# Altium footprint library capacitor_smd.PcbLib: 120 footprints (part 4 of 8)
Each footprint in its own frame and in the unit in brackets; x right, y up, seen from the top. Pads: shape width x height; smd on the part's side, far side on the other; paste and mask are expansions set on the pad; w line width, h text height; cw(c..) or ccw(c..) is an arc to the next point about the centre after c.
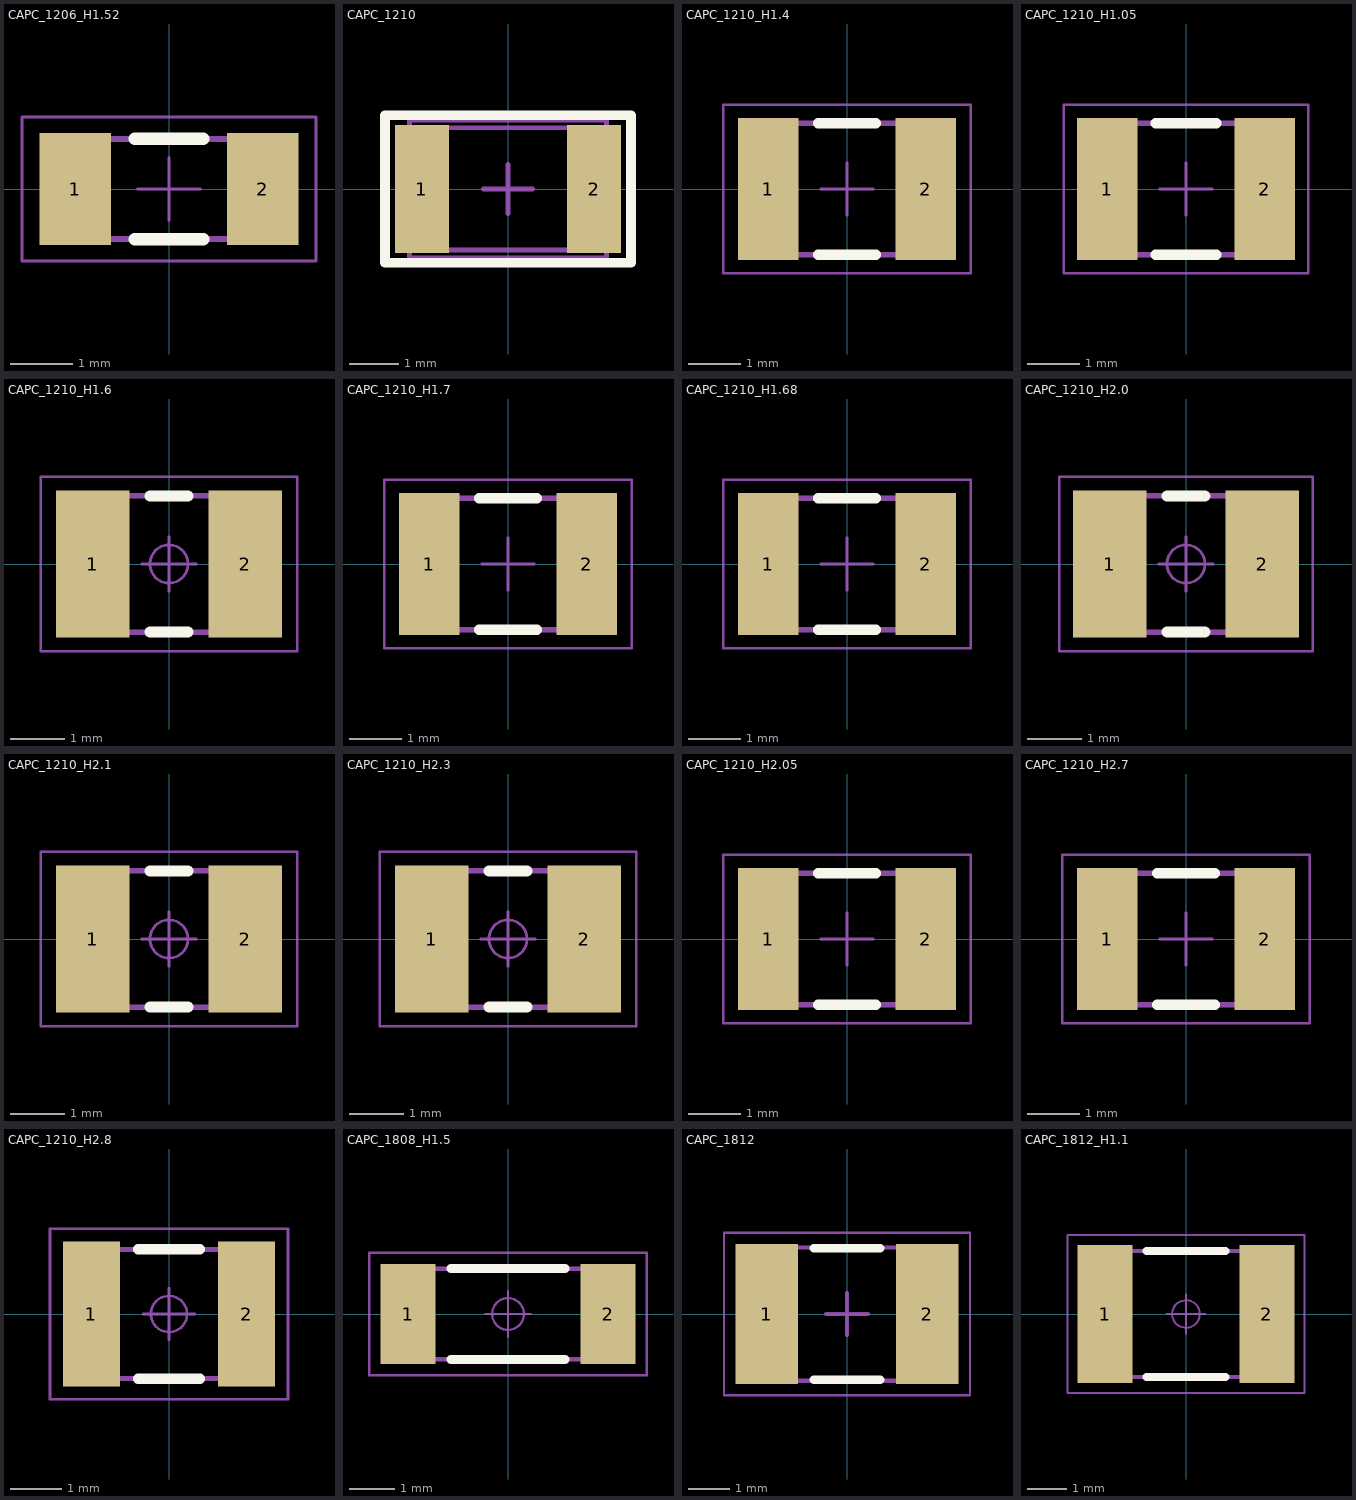
[diagram p3: the footprints below, top view; thin cyan lines are the x and y axes]

## CAPC_1206_H1.52 [mm] "Chip Capacitor, Body 3.2x1.6mm, IPC Medium Density"
height 1.52
pads (2):
  rect 1.15x1.8 smd: 1(-1.5,0) 2(1.5,0)
Top Overlay:
  lines w0.2: -0.55,-0.8 0.55,-0.8 ; -0.55,0.8 0.55,0.8
Mechanical 1:
  lines w0.1: -1.6,-0.8 -1.6,0.8 1.6,0.8 1.6,-0.8 -1.6,-0.8
Mechanical 15:
  lines w0.05: -0.5,0 0.5,0 ; 0,-0.5 0,0.5 ; -2.35,-1.15 -2.35,1.15 2.35,1.15 2.35,-1.15 -2.35,-1.15
3D body "CAPC3216X152N.stp": height 1.52, standoff 0, extent -1.7,-0.9 1.7,0.9

## CAPC_1210 [mm]
height 2.5
pads (2):
  rect 1.1x2.6 smd: 1(-1.75,0) 2(1.75,0)
Top Overlay:
  lines w0.2: -2.5,-1.5 2.5,-1.5 2.5,1.5 -2.5,1.5 -2.5,-1.5
Mechanical 1:
  lines w0.1: -2,-1.244 -2,1.245 2,1.245 2,-1.244 -2,-1.244
Mechanical 15:
  lines w0.1: -0.5,0 0.5,0 ; 0,-0.5 0,0.5 ; -2,-1.4 2,-1.4 2,1.4 -2,1.4 -2,-1.4
3D body "User Library-1210(3225M) Cap.STEP": height 1.7, standoff 0, extent -2,-1.244 2,1.245

## CAPC_1210_H1.4 [mm] "Chip Capacitor, Body 3.2x2.5mm, IPC Medium Density"
height 1.4
pads (2):
  rect 1.15x2.7 smd: 1(-1.5,0) 2(1.5,0)
Top Overlay:
  lines w0.2: -0.55,-1.25 0.55,-1.25 ; -0.55,1.25 0.55,1.25
Mechanical 1:
  lines w0.1: -1.6,-1.25 -1.6,1.25 1.6,1.25 1.6,-1.25 -1.6,-1.25
Mechanical 15:
  lines w0.05: -0.5,0 0.5,0 ; 0,-0.5 0,0.5 ; -2.35,-1.6 2.35,-1.6 2.35,1.6 -2.35,1.6 -2.35,-1.6
3D body "CAPC3225X140N.stp": height 1.4, standoff 0, extent -1.7,-1.35 1.7,1.35

## CAPC_1210_H1.05 [mm] "Chip Capacitor, Body 3.2x2.5mm, IPC Medium Density"
height 1.05
pads (2):
  rect 1.15x2.7 smd: 1(-1.5,0) 2(1.5,0)
Top Overlay:
  lines w0.2: -0.575,-1.25 0.575,-1.25 ; -0.575,1.25 0.575,1.25
Mechanical 1:
  lines w0.1: -1.1,-1.25 -1.1,1.25 ; 1.1,-1.25 1.1,1.25 ; -1.6,-1.25 -1.6,1.25 1.6,1.25 1.6,-1.25 -1.6,-1.25
Mechanical 15:
  lines w0.05: -0.5,0 0.5,0 ; 0,-0.5 0,0.5 ; -2.325,-1.6 2.322,-1.6 2.322,1.6 -2.325,1.6 -2.325,-1.6
3D body "CAPC3225X105N.stp": height 1.05, standoff 0, extent -1.6,-1.25 1.6,1.25

## CAPC_1210_H1.6 [mm] "Chip Capacitor, Body 3.2x2.5mm, IPC Medium Density"
height 1.6
pads (2):
  rect 1.35x2.7 smd: 1(-1.4,0) 2(1.4,0)
Top Overlay:
  lines w0.2: -0.35,-1.25 0.35,-1.25 ; -0.35,1.25 0.35,1.25
Mechanical 1:
  lines w0.1: -1.6,-1.25 -1.6,1.25 1.6,1.25 1.6,-1.25 -1.6,-1.25
Mechanical 15:
  circle w0.05: c0,0 r0.35
  lines w0.05: -0.5,0 0.5,0 ; 0,-0.5 0,0.5 ; -2.35,-1.6 -2.35,1.6 2.35,1.6 2.35,-1.6 -2.35,-1.6
3D body "CAPC3225X160N.stp": height 1.6, standoff 0, extent -1.6,-1.25 1.6,1.25

## CAPC_1210_H1.7 [mm] "Chip Capacitor, Body 3.2x2.5mm, IPC Medium Density"
height 1.7
pads (2):
  rect 1.15x2.7 smd: 1(-1.5,0) 2(1.5,0)
Top Overlay:
  lines w0.2: -0.55,-1.25 0.55,-1.25 ; -0.55,1.25 0.55,1.25
Mechanical 1:
  lines w0.1: -1.6,-1.25 -1.6,1.25 1.6,1.25 1.6,-1.25 -1.6,-1.25
Mechanical 15:
  lines w0.05: -0.5,0 0,0 ; 0,-0.5 0,0 ; 0,0.5 0,0 ; 0.5,0 0,0 ; -2.35,-1.6 -2.35,1.6 2.35,1.6 2.35,-1.6 -2.35,-1.6
3D body "CAPC3225X170N.stp": height 1.7, standoff 0, extent -1.7,-1.35 1.7,1.35

## CAPC_1210_H1.68 [mm] "Chip Capacitor, Body 3.2x2.5mm, IPC Medium Density"
height 1.68
pads (2):
  rect 1.15x2.7 smd: 1(-1.5,0) 2(1.5,0)
Top Overlay:
  lines w0.2: -0.55,-1.25 0.55,-1.25 ; -0.55,1.25 0.55,1.25
Mechanical 1:
  lines w0.1: -1.6,-1.25 1.6,-1.25 1.6,1.25 -1.6,1.25 -1.6,-1.25
Mechanical 15:
  lines w0.05: -0.5,0 0,0 ; 0,-0.5 0,0 ; 0,0.5 0,0 ; 0.5,0 0,0 ; -2.35,-1.6 2.35,-1.6 2.35,1.6 -2.35,1.6 -2.35,-1.6
3D body "CAPC3225X168N.stp": height 1.68, standoff 0, extent -1.7,-1.35 1.7,1.35

## CAPC_1210_H2.0 [mm] "Chip Capacitor, Body 3.2x2.5mm, IPC Medium Density"
height 2
pads (2):
  rect 1.35x2.7 smd: 1(-1.4,0) 2(1.4,0)
Top Overlay:
  lines w0.2: -0.35,-1.25 0.35,-1.25 ; -0.35,1.25 0.35,1.25
Mechanical 1:
  lines w0.1: -1.6,-1.25 -1.6,1.25 1.6,1.25 1.6,-1.25 -1.6,-1.25
Mechanical 15:
  circle w0.05: c0,0 r0.35
  lines w0.05: -0.5,0 0.5,0 ; 0,-0.5 0,0.5 ; -2.325,-1.6 -2.325,1.6 2.325,1.6 2.325,-1.6 -2.325,-1.6
3D body "CAPC3225X200N.stp": height 2, standoff 0, extent -1.7,-1.35 1.5,1.35

## CAPC_1210_H2.1 [mm] "Chip Capacitor, Body 3.2x2.5mm, IPC Medium Density"
height 2.1
pads (2):
  rect 1.35x2.7 smd: 1(-1.4,0) 2(1.4,0)
Top Overlay:
  lines w0.2: -0.35,-1.25 0.35,-1.25 ; -0.35,1.25 0.35,1.25
Mechanical 1:
  lines w0.1: -1.6,-1.25 -1.6,1.25 1.6,1.25 1.6,-1.25 -1.6,-1.25
Mechanical 15:
  circle w0.05: c0,0 r0.35
  lines w0.05: -0.5,0 0.5,0 ; 0,-0.5 0,0.5 ; -2.35,-1.6 -2.35,1.6 2.35,1.6 2.35,-1.6 -2.35,-1.6
3D body "CAPC3225X210N.stp": height 2.1, standoff 0, extent -1.6,-1.35 1.6,1.35

## CAPC_1210_H2.3 [mm] "Chip Capacitor, Body 3.2x2.5mm, IPC Medium Density"
height 2.3
pads (2):
  rect 1.35x2.7 smd: 1(-1.4,0) 2(1.4,0)
Top Overlay:
  lines w0.2: -0.35,-1.25 0.35,-1.25 ; -0.35,1.25 0.35,1.25
Mechanical 1:
  lines w0.1: -1.6,-1.25 -1.6,1.25 1.6,1.25 1.6,-1.25 -1.6,-1.25
Mechanical 15:
  circle w0.05: c0,0 r0.35
  lines w0.05: -0.5,0 0.5,0 ; 0,-0.5 0,0.5 ; -2.35,-1.6 -2.35,1.6 2.35,1.6 2.35,-1.6 -2.35,-1.6
3D body "CAPC3225X230N.stp": height 2.3, standoff 0, extent -1.7,-1.35 1.7,1.35

## CAPC_1210_H2.05 [mm] "Chip Capacitor, Body 3.2x2.5mm, IPC Medium Density"
height 2.05
pads (2):
  rect 1.15x2.7 smd: 1(-1.5,0) 2(1.5,0)
Top Overlay:
  lines w0.2: -0.55,-1.25 0.55,-1.25 ; -0.55,1.25 0.55,1.25
Mechanical 1:
  lines w0.1: -1.6,-1.25 -1.6,1.25 1.6,1.25 1.6,-1.25 -1.6,-1.25
Mechanical 15:
  lines w0.05: -2.35,-1.6 2.35,-1.6 2.35,1.6 -2.35,1.6 -2.35,-1.6 ; -0.5,0 0.5,0 -0.5,0 ; 0,-0.5 0,0.5 0,-0.5
3D body "CAPC3225X205N.stp": height 2.05, standoff 0, extent -1.7,-1.35 1.7,1.35

## CAPC_1210_H2.7 [mm] "Chip Capacitor, Body 3.2x2.5mm, IPC Medium Density"
height 2.7
pads (2):
  rect 1.15x2.7 smd: 1(-1.5,0) 2(1.5,0)
Top Overlay:
  lines w0.2: -0.55,-1.25 0.55,-1.25 ; -0.55,1.25 0.55,1.25
Mechanical 1:
  lines w0.1: -1.6,-1.25 -1.6,1.25 1.6,1.25 1.6,-1.25 -1.6,-1.25
Mechanical 15:
  lines w0.05: -2.35,-1.6 2.35,-1.6 2.35,1.6 -2.35,1.6 -2.35,-1.6 ; -0.5,0 0.5,0 -0.5,0 ; 0,-0.5 0,0.5 0,-0.5
3D body "CAPC3225X270N.stp": height 2.7, standoff 0, extent -1.7,-1.35 1.7,1.35

## CAPC_1210_H2.8 [mm] "Chip Capacitor, Body 3.2x2.5mm, IPC Medium Density"
height 2.8
pads (2):
  rect 1.1x2.8 smd: 1(-1.5,0) 2(1.5,0)
Top Overlay:
  lines w0.2: -0.6,-1.25 0.6,-1.25 ; -0.6,1.25 0.6,1.25
Mechanical 1:
  lines w0.1: -1.6,-1.25 1.6,-1.25 1.6,1.25 -1.6,1.25 -1.6,-1.25
Mechanical 15:
  circle w0.05: c0,0 r0.35
  lines w0.05: -0.5,0 0.5,0 ; 0,-0.5 0,0.5 ; -2.3,-1.65 2.3,-1.65 2.3,1.65 -2.3,1.65 -2.3,-1.65
3D body "CAPC3225X280N.stp": height 2.8, standoff 0, extent -1.7,-1.35 1.7,1.35

## CAPC_1808_H1.5 [mm] "Capacitor, Non-Polarized, Chip;4.50mm L X 2.00mm W X 1.50mm H, IPC Medium Density"
height 1.5
pads (2):
  rect 1.2x2.2 smd: 1(-2.2,0) 2(2.2,0)
Top Overlay:
  lines w0.2: -1.25,-1 1.25,-1 ; -1.25,1 1.25,1
Mechanical 1:
  lines w0.1: -2.25,-1 -2.25,1 2.25,1 2.25,-1 -2.25,-1
Mechanical 15:
  circle w0.05: c0,0 r0.35
  lines w0.05: -0.5,0 0.5,0 ; 0,-0.5 0,0.5 ; -3.05,-1.35 -3.05,1.35 3.05,1.35 3.05,-1.35 -3.05,-1.35
3D body "CAPC4520X150N.stp": height 1.5, standoff 0, extent -2.25,-1 2.25,1

## CAPC_1812 [mm]
height 1.4
pads (2):
  rect 1.5x3.35 smd: 1(-1.925,0) 2(1.925,0)
Top Overlay:
  lines w0.2: -0.8,-1.575 0.8,-1.575 ; -0.8,1.575 0.8,1.575
Mechanical 1:
  lines w0.1: -2.25,-1.6 -2.25,1.6 2.25,1.6 2.25,-1.6 -2.25,-1.6
Mechanical 15:
  lines w0.05: -2.95,-1.95 -2.95,1.95 2.95,1.95 2.95,-1.95 -2.95,-1.95
  lines w0.1: -0.5,0 0.5,0 ; 0,-0.5 0,0.5
3D body "SW3dPS-1812 SMD Capacitor.STEP": height 1.6, standoff 0, extent -2.25,-1.6 2.25,1.6

## CAPC_1812_H1.1 [mm] "Chip Capacitor, 2-Leads, Body 4.5x3.2mm, IPC Medium Density"
height 1.1
pads (2):
  rect 1.4x3.5 smd: 1(-2.05,0) 2(2.05,0)
Top Overlay:
  lines w0.2: -1,-1.6 1,-1.6 ; -1,1.6 1,1.6
Mechanical 1:
  lines w0.1: -2.25,-1.6 -2.25,1.6 2.25,1.6 2.25,-1.6 -2.25,-1.6
Mechanical 15:
  circle w0.05: c0,0 r0.35
  lines w0.05: -0.5,0 0.5,0 ; 0,-0.5 0,0.5 ; -3,-2 -3,2 3,2 3,-2 -3,-2
3D body "CAPC4532X110N.stp": height 1.1, standoff 0, extent -2.25,-1.6 2.25,1.6